# Altium integrated library TB006-508-06BE.IntLib: 1 symbol
Pins are listed as number, name and electrical type; pins without a type are passive.

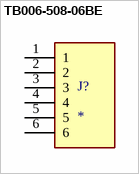
[diagram p0: symbol TB006-508-06BE]

## TB006-508-06BE
designator J?
2~24 Poles, Screw Type, Horizontal, 5.08 Pitch, 26~14 (AWG), Terminal Block Connector; MP: TB006-508-06BE; MF: CUI Devices; Value: *; Purchase-URL: https://pricing.snapeda.com/search/part/TB006-508-06BE/?ref=eda; Check_prices: https://www.snapeda.com/parts/TB006-508-06BE/CUI+Devices/view-part/?ref=eda; SnapEDA_Link: https://www.snapeda.com/parts/TB006-508-06BE/CUI+Devices/view-part/?ref=snap; Digi-Key_Part_Number: 102-6195-ND; CUI_purchase_URL: https://www.cuidevices.com/product/interconnect/connectors/terminal-blocks/tb006-508-series?utm_source=snapeda.com&utm_medium=referral&utm_campaign=snapedaBOM; Package: None
footprint CUI_TB006-508-06BE
pins: 1, 2, 3, 4, 5, 6